# Altium footprint library headers.PcbLib: 2 footprints
Each footprint in its own frame and in the unit in brackets; x right, y up, seen from the top. Pads: shape width x height; smd on the part's side, far side on the other; paste and mask are expansions set on the pad; w line width, h text height; cw(c..) or ccw(c..) is an arc to the next point about the centre after c.
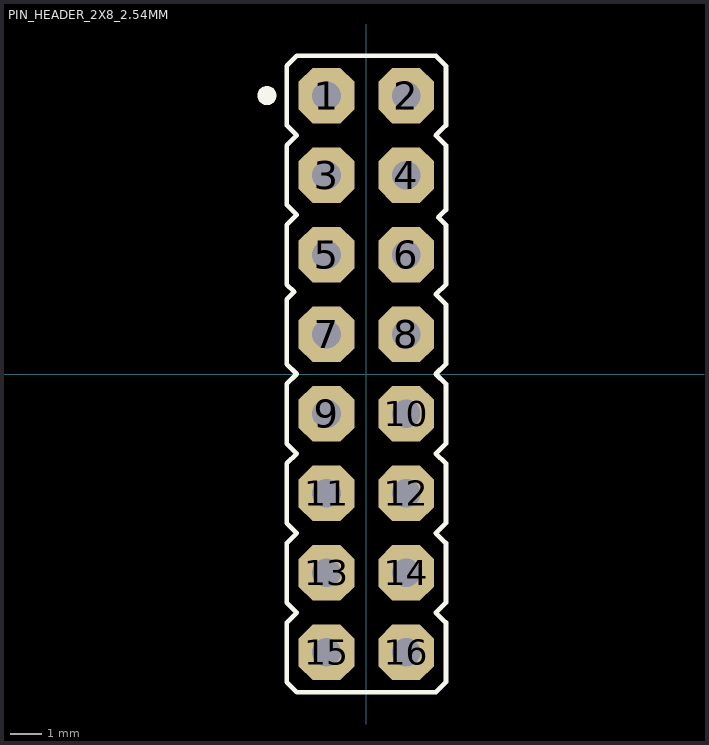
[diagram p0: the footprints below, top view; thin cyan lines are the x and y axes]

## PIN_HEADER_2X8_1.27MM [mil]

## PIN_HEADER_2X8_2.54MM [mil]
pads (16):
  oct 70x70 hole 36: 1(-50,350) 2(50,350) 3(-50,250) 4(50,250) 5(-50,150) 6(50,150) 7(-50,50) 8(50,50) 9(-50,-50) 10(50,-50) 11(-50,-150) 12(50,-150) 13(-50,-250) 14(50,-250) 15(-50,-350) 16(50,-350)
Top Overlay:
  circle w12: c-125,350 r6
  lines w6: -100,-387.5 -87.5,-400 87.5,-400 100,-387.5 100,-312.5 87.5,-300 100,-287.5 100,-212.5 87.5,-200 100,-187.5 100,-112.5 87.5,-100 100,-87.5 100,-12.5 87.5,0 100,12.5 100,87.5 87.5,100 100,112.5 100,187.5 90.62,196.88 100,206.25 100,287.5 87.5,300 100,312.5 100,387.5 87.5,400 -87.5,400 -100,387.5 -100,312.5 -87.5,300 -100,287.5 -100,212.5 -87.5,200 -100,187.5 -100,112.5 -90.62,103.12 -100,93.75 -100,12.5 -87.5,0 -100,-12.5 -100,-87.5 -87.5,-100 -100,-112.5 -100,-187.5 -87.5,-200 -100,-212.5 -100,-287.5 -87.5,-300 -100,-312.5 -100,-387.5